# EAGLE library part SPH0645 (library UNIT_Biblioteca_Modulos)
SPH0645LM4H Source: Datasheet <https://learn.adafruit.com/adafruit-i2s-mems-microphone-breakout/> SKU: Propietario: UNIT Electronics Desarrollador: Alberto Villanueva
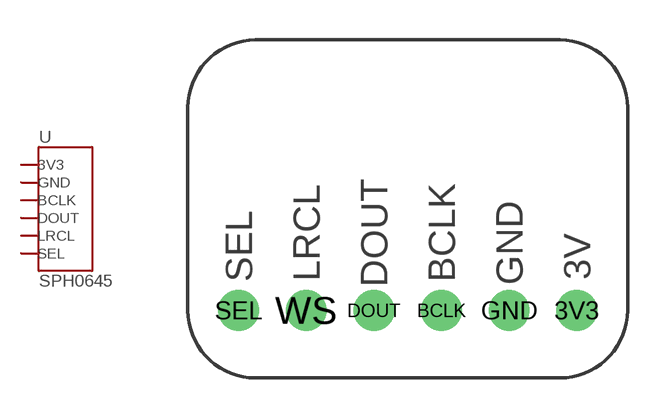
[diagram p25: symbol with the pads of SPH0645; footprint SPH0645]

Designator prefix -

## SPH0645 (CLASS: Modules; DESCRIPTION: I2S MEMS microphone; MANUFACTURER_NAME: Adafruit; MANUFACTURER_PART_NUMBER: SPH0645LM4H; VENDOR_PART_NUMBER: 3421; VENDOR_PRICE-STOCK: https://www.adafruit.com/product/3421)  [SPH0645]
3V3  3V3
BCLK  BCLK
DOUT  DOUT
GND  GND
SEL  SEL
WS  LRCL

## Footprint SPH0645 (pad centres in mm)
drill 1.02: 3V3 14.605,2.54; BCLK 9.525,2.54; DOUT 6.985,2.54; GND 12.065,2.54; SEL 1.905,2.54; WS 4.445,2.54